# Altium schematic symbol library LDS3985.SchLib: 1 symbol
Pins are listed as number, name and electrical type; pins without a type are passive.

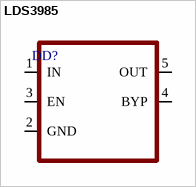
[diagram p0: symbol LDS3985]

## LDS3985
designator DD?
pins: 1 IN, 2 GND, 3 EN, 4 BYP, 5 OUT